# Altium footprint library PcbLib1.PcbLib: 26 footprints (part 2 of 2)
Each footprint in its own frame and in the unit in brackets; x right, y up, seen from the top. Pads: shape width x height; smd on the part's side, far side on the other; paste and mask are expansions set on the pad; w line width, h text height; cw(c..) or ccw(c..) is an arc to the next point about the centre after c.
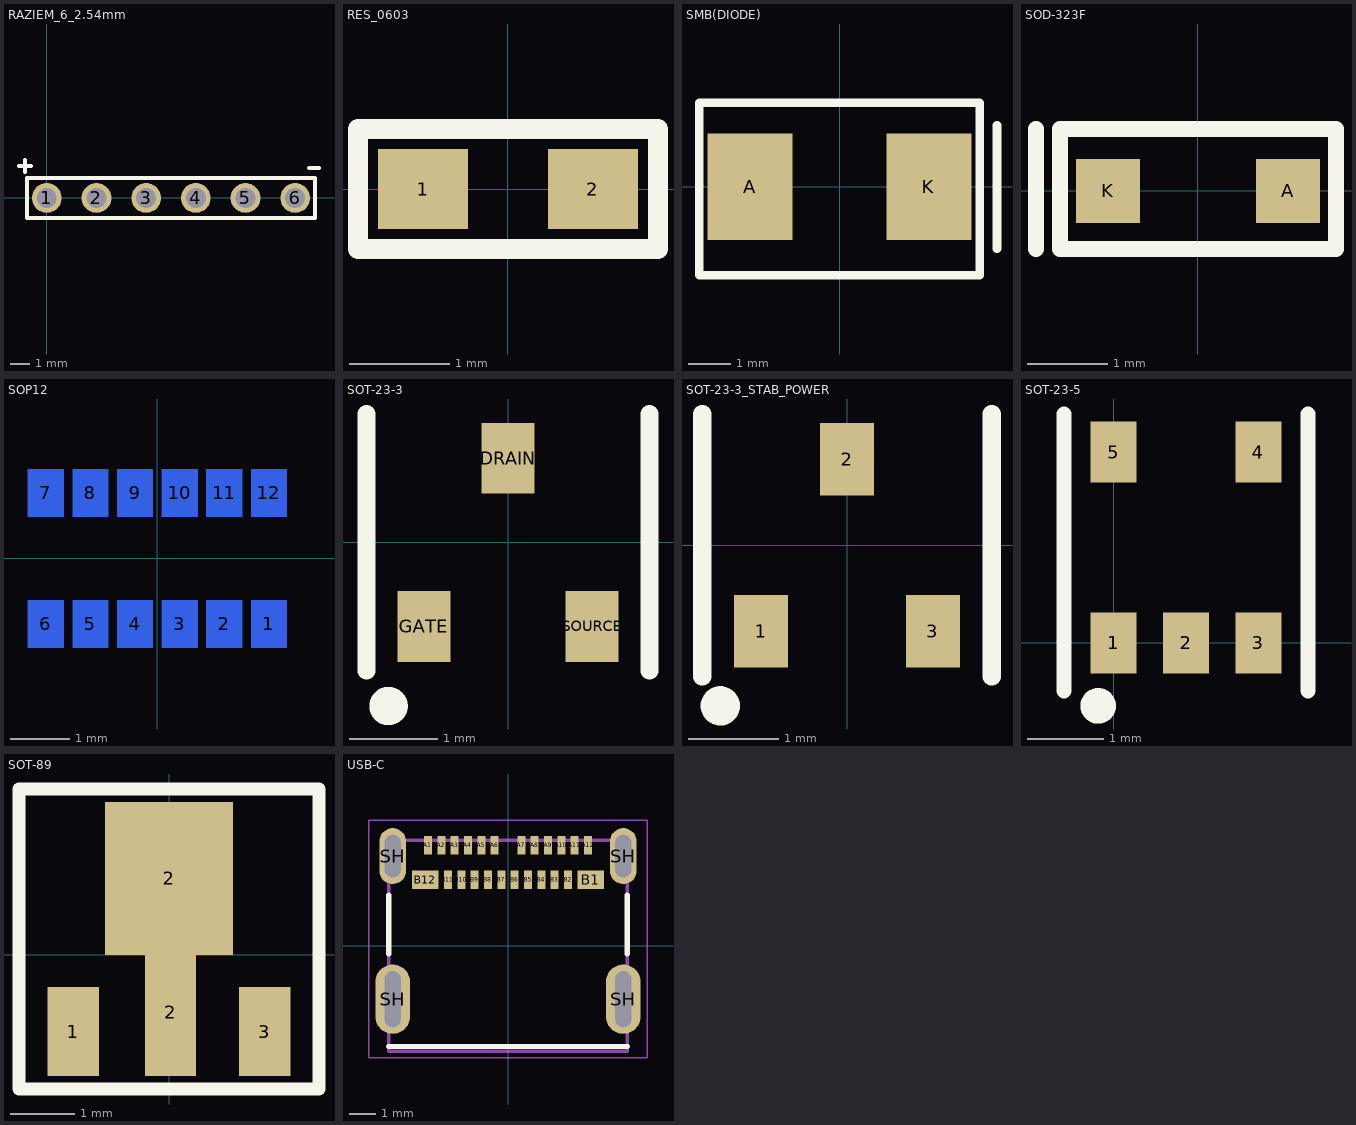
[diagram p1: the footprints below, top view; thin cyan lines are the x and y axes]

## RAZIEM_6_2.54mm [mm]
height 0.55
pads (6):
  round 1.5 hole 1: 1(0,0) 2(2.5,0) 3(5,0) 4(7.5,0) 5(10,0) 6(12.5,0)
Top Overlay:
  lines w0.2: -1.4,1.6 -0.8,1.6 ; -1.1,1.3 -1.1,1.9 ; 13.2,1.5 13.7,1.5 ; -1,-1 -1,1 13.5,1 13.5,-1 -1,-1

## RES_0603 [mm]
height 0.55
pads (2):
  rect 0.9x0.8 smd: 1(-0.85,0) 2(0.85,0)
Top Overlay:
  lines w0.2: -1.5,-0.6 -1.5,0.6 1.5,0.6 1.5,-0.6 -1.5,-0.6
3D body "0603_RES.step": height 0.45, standoff 0, extent -0.8,-0.41 0.8,0.41

## SMB(DIODE) [mm]
pads (2):
  rect 2x2.5 smd: A(-2.1,0) K(2.1,0)
Top Overlay:
  lines w0.2: 3.7,-1.45 3.7,-0.725 3.7,0.725 3.7,1.45 ; -3.3,-2.075 -3.3,1.975 3.3,1.975 3.3,-2.075 -3.3,-2.075
3D body "SMB.STEP": height 2.4, standoff 0, extent -2.775,-1.95 2.825,1.85

## SOD-323F [mm]
pads (2):
  rect 0.8x0.8 smd: A(1.125,0) K(-1.125,0)
Top Overlay:
  lines w0.2: -2.025,-0.725 -2.025,-0.625 -2.025,0.775 ; -1.725,-0.725 -1.725,0.775 1.725,0.775 1.725,-0.725 -1.725,-0.725
3D body "SOT323F.step": height 0.72, standoff 0.01, extent -1.225,-0.6 1.275,0.65

## SOP12 [mm]
pads (12):
  rect 0.6x0.8 smd far side: 1(1.875,-1.1) 2(1.125,-1.1) 3(0.375,-1.1) 4(-0.375,-1.1) 5(-1.125,-1.1) 6(-1.875,-1.1) 7(-1.875,1.1) 8(-1.125,1.1) 9(-0.375,1.1) 10(0.375,1.1) 11(1.125,1.1) 12(1.875,1.1)
Bottom Overlay:
  circle w0.2: c2.625,-1.75 r0.09
  lines w0.1: -2.325,-1.65 2.325,-1.65 2.325,1.65 -2.325,1.65 -2.325,-1.65
Bottom Solder:
  rectangle: -2.275,-1.6 2.275,-0.6
  rectangle: -2.275,0.6 2.275,1.6

## SOT-23-3 [mm]
pads (3):
  rect 0.6x0.8 smd: DRAIN(0,0.95) GATE(-0.95,-0.95) SOURCE(0.95,-0.95)
Top Overlay:
  circle w0.254: c-1.35,-1.85 r0.09
  lines w0.2: -1.6,-1.45 -1.6,1.45 ; 1.6,-1.45 1.6,1.45
3D body "SOT-23.STEP": height 1.1, standoff 0, extent -1.5,-1.15 1.5,1.15

## SOT-23-3_STAB_POWER [mm]
pads (3):
  rect 0.6x0.8 smd: 1(-0.95,-0.95) 2(0,0.95) 3(0.95,-0.95)
Top Overlay:
  circle w0.254: c-1.4,-1.775 r0.09
  lines w0.2: -1.6,-1.45 -1.6,1.45 ; 1.6,-1.45 1.6,1.45
3D body "SOT-23.STEP": height 1.1, standoff 0, extent -1.5,-1.15 1.5,1.15

## SOT-23-5 [mm]
pads (5):
  rect 0.6x0.8 smd: 1(0,0) 2(0.95,0) 3(1.9,0) 4(1.9,2.5) 5(0,2.5)
Top Overlay:
  circle w0.254: c-0.2,-0.825 r0.106
  lines w0.2: -0.65,-0.625 -0.65,3 ; 2.55,-0.625 2.55,3
3D body "SOT-23-5.STEP": height 1.1, standoff 0, extent -0.55,-0.17 2.45,2.67

## SOT-89 [mm]
height 0.55
pads (4):
  rect 0.8x1.4 smd: 1(-1.5,-1.2) 3(1.5,-1.2)
  rect 2x2.4 smd: 2(0,1.2)
  rect 0.8x2 smd: 2(0.025,-0.9)
Top Overlay:
  lines w0.2: -2.35,-2.1 -2.35,2.6 2.35,2.6 2.35,-2.1 -2.35,-2.1
3D body "SOT89.step": height 1.53, standoff 0.02, extent -2.25,-1.775 2.25,2.225

## USB-C [mm]
height 0.55
pads (28):
  rect 0.3x0.7 smd: A1(-3,3.77) A2(-2.5,3.77) A3(-2,3.77) A4(-1.5,3.77) A5(-1,3.77) A6(-0.5,3.77) A7(0.5,3.77) A8(1,3.77) A9(1.5,3.77) A10(2,3.77) A11(2.5,3.77) A12(3,3.77) B2(2.25,2.47) B3(1.75,2.47) B4(1.25,2.47) B5(0.75,2.47) B6(0.25,2.47) B7(-0.25,2.47) B8(-0.75,2.47) B9(-1.25,2.47) B10(-1.75,2.47) B11(-2.25,2.47)
  rect 1x0.7 smd: B1(3.1,2.47) B12(-3.1,2.47)
  oval 1.3x2.6 hole 0.6 slot 2.1 at 90 deg: SH(-4.32,-2) SH(4.32,-2)
  oval 1x2.1 hole 0.6 slot 1.6 at 90 deg: SH(-4.32,3.36) SH(4.32,3.36)
Top Overlay:
  lines w0.2: -4.47,-3.77 4.47,-3.77 ; -4.47,-0.3 -4.47,1.9 ; 4.47,-0.3 4.47,1.9
Mechanical 13:
  lines w0.127: -4.47,-3.95 4.47,-3.95 4.47,3.95 -4.47,3.95 -4.47,-3.95
Mechanical 15:
  lines w0.05: -5.22,-4.2 5.22,-4.2 5.22,4.71 -5.22,4.71 -5.22,-4.2
3D body "105450-0101.stp": height 3.18, standoff -0.78, extent -4.495,-3.925 4.445,3.975